# EAGLE library part 12AU7 (library tubes)
TWIN TRIODE
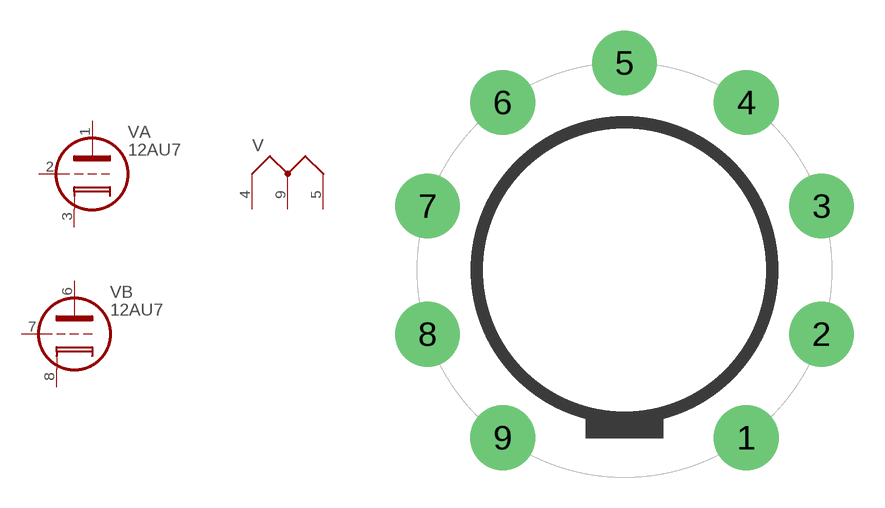
[diagram p1: symbol with the pads of SOCKET-9PIN; footprint SOCKET-9PIN]

Designator prefix V; gates F=HTR2 A=TRIODE B=TRIODE

## 12AU7  [SOCKET-9PIN]
1  A:A  pas
2  A:G  pas
3  A:C  pas
4  F:F1  pas
5  F:F2  pas
6  B:A  pas
7  B:G  pas
8  B:C  pas
9  F:FC  pas

## Footprint SOCKET-9PIN (pad centres in mm)
drill 1.93 pad 3.175: 1 5.972,-8.22; 2 9.663,-3.14; 3 9.663,3.14; 4 5.972,8.22; 5 0,10.16; 6 -5.972,8.22; 7 -9.663,3.14; 8 -9.663,-3.14; 9 -5.972,-8.22